# EAGLE library part PIC16*F1516/18 (library microchip)
28/40/44-Pin Flash Microcontrollers with nanoWatt XLP Technology PIC16F1516/1518 AND PIC16LF1516/1518 Source: www.microchip.com PIC16F1516.pdf
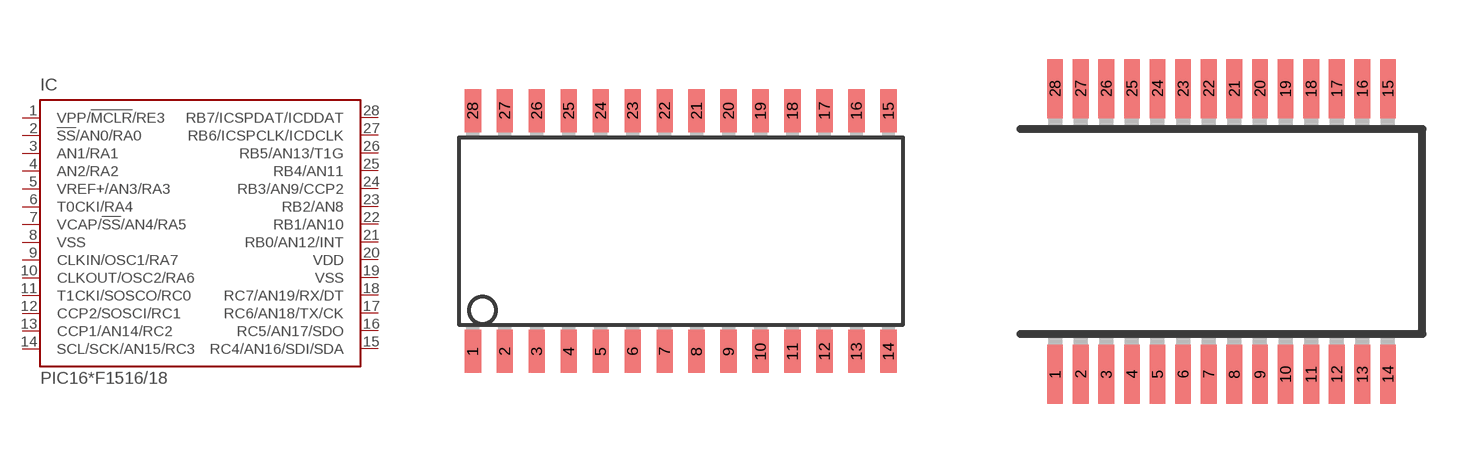
[diagram p143: symbol with the pads of SO28W; footprints SO28W, SSOP28]

Designator prefix IC

## PIC16F1516/18SO, PIC16LF1516/18SO  [SO28W]
1  VPP/!MCLR!/RE3
2  !SS!/AN0/RA0
3  AN1/RA1
4  AN2/RA2
5  VREF+/AN3/RA3
6  T0CKI/RA4
7  VCAP/!SS!/AN4/RA5
8  VSS  pwr
9  CLKIN/OSC1/RA7
10  CLKOUT/OSC2/RA6
11  T1CKI/SOSCO/RC0
12  CCP2/SOSCI/RC1
13  CCP1/AN14/RC2
14  SCL/SCK/AN15/RC3
15  RC4/AN16/SDI/SDA
16  RC5/AN17/SDO
17  RC6/AN18/TX/CK
18  RC7/AN19/RX/DT
19  VSS  pwr
20  VDD  pwr
21  RB0/AN12/INT
22  RB1/AN10
23  RB2/AN8
24  RB3/AN9/CCP2
25  RB4/AN11
26  RB5/AN13/T1G
27  RB6/ICSPCLK/ICDCLK
28  RB7/ICSPDAT/ICDDAT

## PIC16F1516/18SS, PIC16LF1516/18SS  [SSOP28]
Pads as for SO28W

## PIC16F1516/18P, PIC16LF1516/18P  [DIL28-3]
Pads as for SO28W

## PIC16F1516/18ML  [UQFN28_4X4MM]
1  AN2/RA2
2  VREF+/AN3/RA3
3  T0CKI/RA4
4  VCAP/!SS!/AN4/RA5
5  VSS  pwr
6  CLKIN/OSC1/RA7
7  CLKOUT/OSC2/RA6
8  T1CKI/SOSCO/RC0
9  CCP2/SOSCI/RC1
10  CCP1/AN14/RC2
11  SCL/SCK/AN15/RC3
12  RC4/AN16/SDI/SDA
13  RC5/AN17/SDO
14  RC6/AN18/TX/CK
15  RC7/AN19/RX/DT
16  VSS  pwr
17  VDD  pwr
18  RB0/AN12/INT
19  RB1/AN10
20  RB2/AN8
21  RB3/AN9/CCP2
22  RB4/AN11
23  RB5/AN13/T1G
24  RB6/ICSPCLK/ICDCLK
25  RB7/ICSPDAT/ICDDAT
26  VPP/!MCLR!/RE3
27  !SS!/AN0/RA0
28  AN1/RA1

## Footprint SO28W (pad centres in mm)
28-Lead Plastic Small Outline (SO) Wide, 300 mil Body (SOIC) Source: http://ww1.microchip.com/downloads/en/devicedoc/39632c.pdf
smd 0.65 x 1.7: 1 -7.62,-4.78; 2 -6.35,-4.78; 3 -5.08,-4.78; 4 -3.81,-4.78; 5 -2.54,-4.78; 6 -1.27,-4.78; 7 0,-4.78; 8 1.27,-4.78; 9 2.54,-4.78; 10 3.81,-4.78; 11 5.08,-4.78; 12 6.35,-4.78; 13 7.62,-4.78; 14 8.89,-4.78; 15 8.89,4.78; 16 7.62,4.78; 17 6.35,4.78; 18 5.08,4.78; 19 3.81,4.78; 20 2.54,4.78; 21 1.27,4.78; 22 0,4.78; 23 -1.27,4.78; 24 -2.54,4.78; 25 -3.81,4.78; 26 -5.08,4.78; 27 -6.35,4.78; 28 -7.62,4.78

## Footprint SSOP28 (pad centres in mm)
Shrink Small Outline Package package type SS
smd 0.4 x 1.5: 1 -4.225,-3.625; 2 -3.575,-3.625; 3 -2.925,-3.625; 4 -2.275,-3.625; 5 -1.625,-3.625; 6 -0.975,-3.625; 7 -0.325,-3.625; 8 0.325,-3.625; 9 0.975,-3.625; 10 1.625,-3.625; 11 2.275,-3.625; 12 2.925,-3.625; 13 3.575,-3.625; 14 4.225,-3.625; 15 4.225,3.625; 16 3.575,3.625; 17 2.925,3.625; 18 2.275,3.625; 19 1.625,3.625; 20 0.975,3.625; 21 0.325,3.625; 22 -0.325,3.625; 23 -0.975,3.625; 24 -1.625,3.625; 25 -2.275,3.625; 26 -2.925,3.625; 27 -3.575,3.625; 28 -4.225,3.625

## Footprint DIL28-3 (pad centres in mm)
Dual In Line package type P
drill 0.813 long: 1 -16.51,-3.81; 2 -13.97,-3.81; 3 -11.43,-3.81; 4 -8.89,-3.81; 5 -6.35,-3.81; 6 -3.81,-3.81; 7 -1.27,-3.81; 8 1.27,-3.81; 9 3.81,-3.81; 10 6.35,-3.81; 11 8.89,-3.81; 12 11.43,-3.81; 13 13.97,-3.81; 14 16.51,-3.81; 15 16.51,3.81; 16 13.97,3.81; 17 11.43,3.81; 18 8.89,3.81; 19 6.35,3.81; 20 3.81,3.81; 21 1.27,3.81; 22 -1.27,3.81; 23 -3.81,3.81; 24 -6.35,3.81; 25 -8.89,3.81; 26 -11.43,3.81; 27 -13.97,3.81; 28 -16.51,3.81

## Footprint UQFN28_4X4MM (pad centres in mm)
28-Lead Platic Ultra Thin Quad Flat, No Lead Package (MV) - 4x4x0.5 mm Body [UQFN] Source: PIC16F1516.pdf
smd 0.65 x 0.25: 1 -1.8,1.2; 2 -1.8,0.8; 3 -1.8,0.4; 4 -1.8,0; 5 -1.8,-0.4; 6 -1.8,-0.8; 7 -1.8,-1.2; 15 1.8,-1.2; 16 1.8,-0.8; 17 1.8,-0.4; 18 1.8,0; 19 1.8,0.4; 20 1.8,0.8; 21 1.8,1.2
smd 0.25 x 0.65: 8 -1.2,-1.8; 9 -0.8,-1.8; 10 -0.4,-1.8; 11 0,-1.8; 12 0.4,-1.8; 13 0.8,-1.8; 14 1.2,-1.8; 22 1.2,1.8; 23 0.8,1.8; 24 0.4,1.8; 25 0,1.8; 26 -0.4,1.8; 27 -0.8,1.8; 28 -1.2,1.8
smd 2.75 x 2.75: TH 0,0